# EAGLE library part PIC18F97J90 (library 000001)
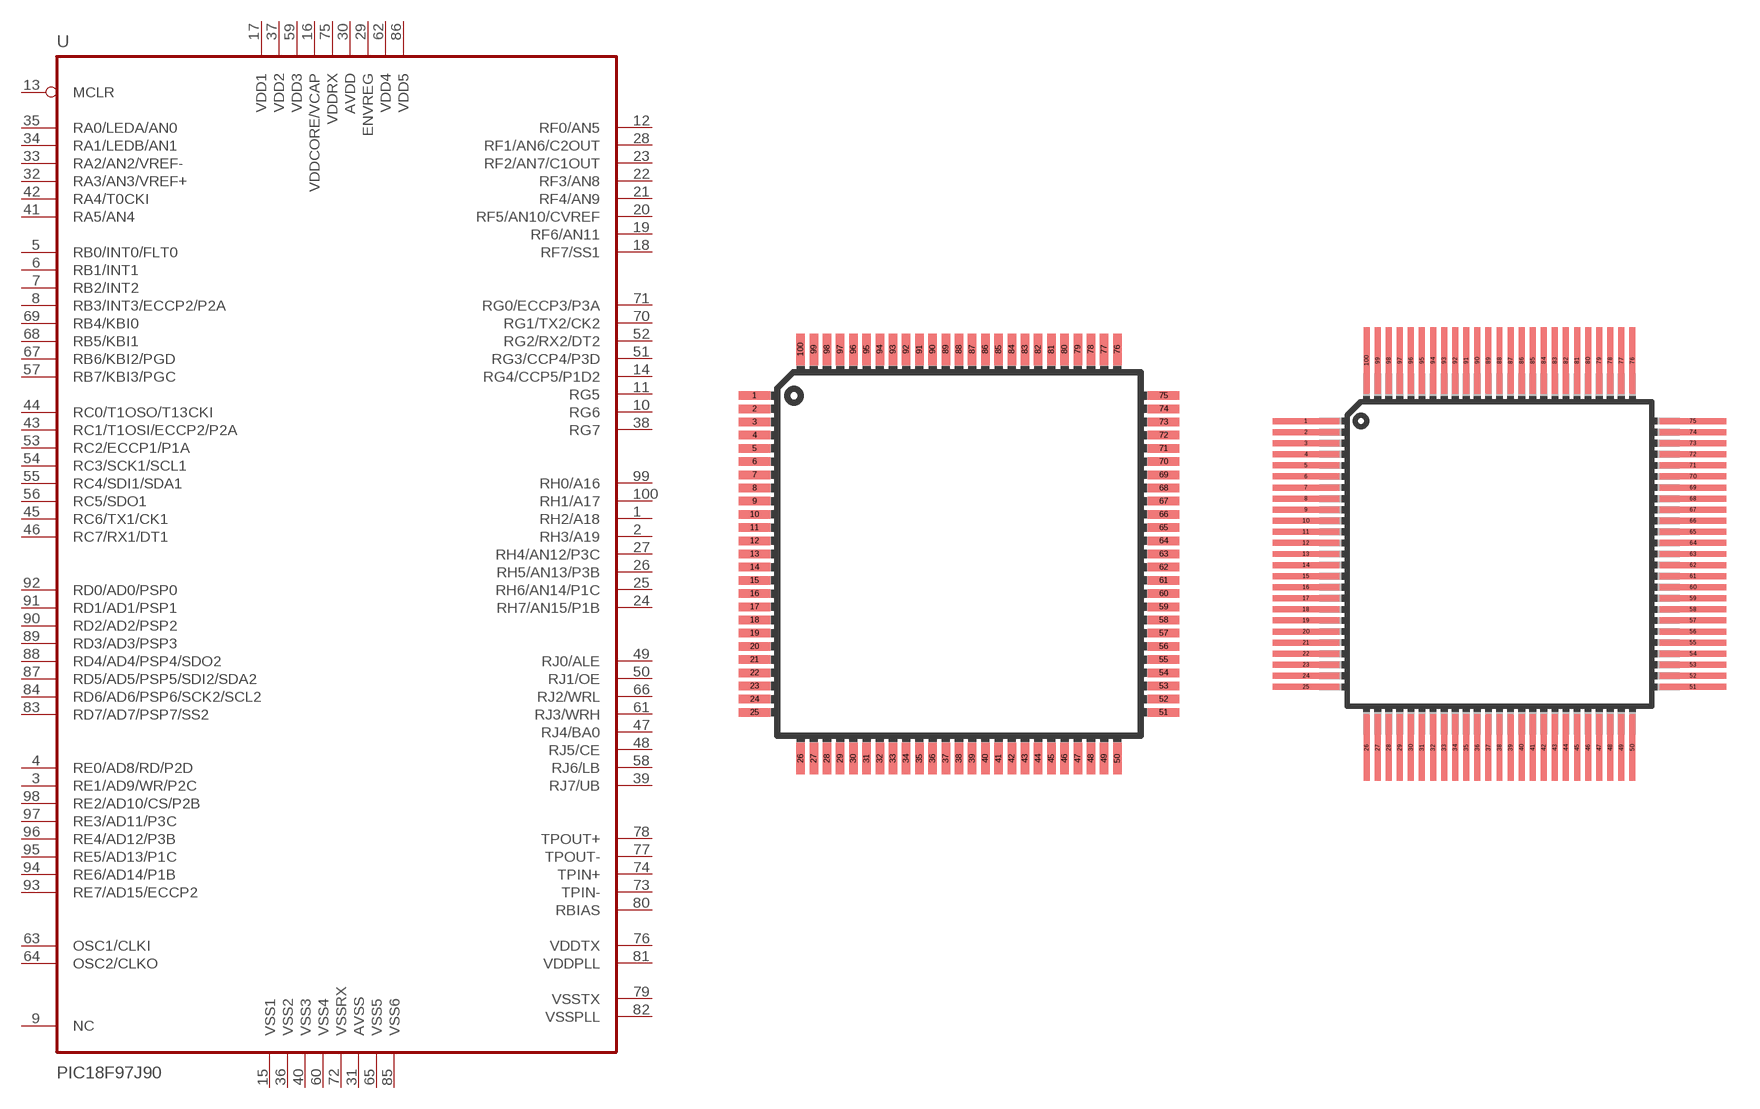
[diagram p50: symbol with the pads of TQFP100; footprints TQFP100, TQFP100_MIO]

Designator prefix -

## PIC18F97J90  [TQFP100]
1  RH2/A18
2  RH3/A19
3  RE1/AD9/WR/P2C
4  RE0/AD8/RD/P2D
5  RB0/INT0/FLT0
6  RB1/INT1
7  RB2/INT2
8  RB3/INT3/ECCP2/P2A
9  NC
10  RG6
11  RG5
12  RF0/AN5
13  MCLR
14  RG4/CCP5/P1D2
15  VSS1
16  VDDCORE/VCAP
17  VDD1
18  RF7/SS1
19  RF6/AN11
20  RF5/AN10/CVREF
21  RF4/AN9
22  RF3/AN8
23  RF2/AN7/C1OUT
24  RH7/AN15/P1B
25  RH6/AN14/P1C
26  RH5/AN13/P3B
27  RH4/AN12/P3C
28  RF1/AN6/C2OUT
29  ENVREG
30  AVDD
31  AVSS
32  RA3/AN3/VREF+
33  RA2/AN2/VREF-
34  RA1/LEDB/AN1
35  RA0/LEDA/AN0
36  VSS2
37  VDD2
38  RG7
39  RJ7/UB
40  VSS3
41  RA5/AN4
42  RA4/T0CKI
43  RC1/T1OSI/ECCP2/P2A
44  RC0/T1OSO/T13CKI
45  RC6/TX1/CK1
46  RC7/RX1/DT1
47  RJ4/BA0
48  RJ5/CE
49  RJ0/ALE
50  RJ1/OE
51  RG3/CCP4/P3D
52  RG2/RX2/DT2
53  RC2/ECCP1/P1A
54  RC3/SCK1/SCL1
55  RC4/SDI1/SDA1
56  RC5/SDO1
57  RB7/KBI3/PGC
58  RJ6/LB
59  VDD3
60  VSS4
61  RJ3/WRH
62  VDD4
63  OSC1/CLKI
64  OSC2/CLKO
65  VSS5
66  RJ2/WRL
67  RB6/KBI2/PGD
68  RB5/KBI1
69  RB4/KBI0
70  RG1/TX2/CK2
71  RG0/ECCP3/P3A
72  VSSRX
73  TPIN-
74  TPIN+
75  VDDRX
76  VDDTX
77  TPOUT-
78  TPOUT+
79  VSSTX
80  RBIAS
81  VDDPLL
82  VSSPLL
83  RD7/AD7/PSP7/SS2
84  RD6/AD6/PSP6/SCK2/SCL2
85  VSS6
86  VDD5
87  RD5/AD5/PSP5/SDI2/SDA2
88  RD4/AD4/PSP4/SDO2
89  RD3/AD3/PSP3
90  RD2/AD2/PSP2
91  RD1/AD1/PSP1
92  RD0/AD0/PSP0
93  RE7/AD15/ECCP2
94  RE6/AD14/P1B
95  RE5/AD13/P1C
96  RE4/AD12/P3B
97  RE3/AD11/P3C
98  RE2/AD10/CS/P2B
99  RH0/A16
100  RH1/A17

## PIC18F97J90PF  [TQFP100_MIO]
Pads as for TQFP100

## PIC18F97J90A  [TQFP100_ADA]
NC1  NC
P$1  RH2/A18
P$2  RH3/A19
P$3  RE1/AD9/WR/P2C
P$4  RE0/AD8/RD/P2D
P$5  RB0/INT0/FLT0
P$6  RB1/INT1
P$7  RB2/INT2
P$8  RB3/INT3/ECCP2/P2A
P$10  RG6
P$11  RG5
P$12  RF0/AN5
P$13  MCLR
P$14  RG4/CCP5/P1D2
P$15  VSS1
P$16  VDDCORE/VCAP
P$17  VDD1
P$18  RF7/SS1
P$19  RF6/AN11
P$20  RF5/AN10/CVREF
P$21  RF4/AN9
P$22  RF3/AN8
P$23  RF2/AN7/C1OUT
P$24  RH7/AN15/P1B
P$25  RH6/AN14/P1C
P$26  RH5/AN13/P3B
P$27  RH4/AN12/P3C
P$28  RF1/AN6/C2OUT
P$29  ENVREG
P$30  AVDD
P$31  AVSS
P$32  RA3/AN3/VREF+
P$33  RA2/AN2/VREF-
P$34  RA1/LEDB/AN1
P$35  RA0/LEDA/AN0
P$36  VSS2
P$37  VDD2
P$38  RG7
P$39  RJ7/UB
P$40  VSS3
P$41  RA5/AN4
P$42  RA4/T0CKI
P$43  RC1/T1OSI/ECCP2/P2A
P$44  RC0/T1OSO/T13CKI
P$45  RC6/TX1/CK1
P$46  RC7/RX1/DT1
P$47  RJ4/BA0
P$48  RJ5/CE
P$49  RJ0/ALE
P$50  RJ1/OE
P$51  RG3/CCP4/P3D
P$52  RG2/RX2/DT2
P$53  RC2/ECCP1/P1A
P$54  RC3/SCK1/SCL1
P$55  RC4/SDI1/SDA1
P$56  RC5/SDO1
P$57  RB7/KBI3/PGC
P$58  RJ6/LB
P$59  VDD3
P$60  VSS4
P$61  RJ3/WRH
P$62  VDD4
P$63  OSC1/CLKI
P$64  OSC2/CLKO
P$65  VSS5
P$66  RJ2/WRL
P$67  RB6/KBI2/PGD
P$68  RB5/KBI1
P$69  RB4/KBI0
P$70  RG1/TX2/CK2
P$71  RG0/ECCP3/P3A
P$72  VSSRX
P$73  TPIN-
P$74  TPIN+
P$75  VDDRX
P$76  VDDTX
P$77  TPOUT-
P$78  TPOUT+
P$79  VSSTX
P$80  RBIAS
P$81  VDDPLL
P$82  VSSPLL
P$83  RD7/AD7/PSP7/SS2
P$84  RD6/AD6/PSP6/SCK2/SCL2
P$85  VSS6
P$86  VDD5
P$87  RD5/AD5/PSP5/SDI2/SDA2
P$88  RD4/AD4/PSP4/SDO2
P$89  RD3/AD3/PSP3
P$90  RD2/AD2/PSP2
P$91  RD1/AD1/PSP1
P$92  RD0/AD0/PSP0
P$93  RE7/AD15/ECCP2
P$94  RE6/AD14/P1B
P$95  RE5/AD13/P1C
P$96  RE4/AD12/P3B
P$97  RE3/AD11/P3C
P$98  RE2/AD10/CS/P2B
P$99  RH0/A16
P$100  RH1/A17

## Footprint TQFP100 (pad centres in mm)
smd 1.2 x 0.32: 1 -7.75,6; 2 -7.75,5.5; 3 -7.75,5; 4 -7.75,4.5; 5 -7.75,4; 6 -7.75,3.5; 7 -7.75,3; 8 -7.75,2.5; 9 -7.75,2; 10 -7.75,1.5; 11 -7.75,1; 12 -7.75,0.5; 13 -7.75,0; 14 -7.75,-0.5; 15 -7.75,-1; 16 -7.75,-1.5; 17 -7.75,-2; 18 -7.75,-2.5; 19 -7.75,-3; 20 -7.75,-3.5; 21 -7.75,-4; 22 -7.75,-4.5; 23 -7.75,-5; 24 -7.75,-5.5; 25 -7.75,-6; 51 7.75,-6; 52 7.75,-5.5; 53 7.75,-5; 54 7.75,-4.5; 55 7.75,-4; 56 7.75,-3.5; 57 7.75,-3; 58 7.75,-2.5; 59 7.75,-2; 60 7.75,-1.5; 61 7.75,-1; 62 7.75,-0.5; 63 7.75,0; 64 7.75,0.5; 65 7.75,1; 66 7.75,1.5; 67 7.75,2; 68 7.75,2.5; 69 7.75,3; 70 7.75,3.5; 71 7.75,4; 72 7.75,4.5; 73 7.75,5; 74 7.75,5.5; 75 7.75,6
smd 0.32 x 1.2: 26 -6,-7.75; 27 -5.5,-7.75; 28 -5,-7.75; 29 -4.5,-7.75; 30 -4,-7.75; 31 -3.5,-7.75; 32 -3,-7.75; 33 -2.5,-7.75; 34 -2,-7.75; 35 -1.5,-7.75; 36 -1,-7.75; 37 -0.5,-7.75; 38 0,-7.75; 39 0.5,-7.75; 40 1,-7.75; 41 1.5,-7.75; 42 2,-7.75; 43 2.5,-7.75; 44 3,-7.75; 45 3.5,-7.75; 46 4,-7.75; 47 4.5,-7.75; 48 5,-7.75; 49 5.5,-7.75; 50 6,-7.75; 76 6,7.75; 77 5.5,7.75; 78 5,7.75; 79 4.5,7.75; 80 4,7.75; 81 3.5,7.75; 82 3,7.75; 83 2.5,7.75; 84 2,7.75; 85 1.5,7.75; 86 1,7.75; 87 0.5,7.75; 88 0,7.75; 89 -0.5,7.75; 90 -1,7.75; 91 -1.5,7.75; 92 -2,7.75; 93 -2.5,7.75; 94 -3,7.75; 95 -3.5,7.75; 96 -4,7.75; 97 -4.5,7.75; 98 -5,7.75; 99 -5.5,7.75; 100 -6,7.75

## Footprint TQFP100_MIO (pad centres in mm)
smd 3 x 0.27: 1 -8.738,6; 2 -8.738,5.5; 3 -8.738,5; 4 -8.738,4.5; 5 -8.738,4; 6 -8.738,3.5; 7 -8.738,3; 8 -8.738,2.5; 9 -8.738,2; 10 -8.738,1.5; 11 -8.738,1; 12 -8.738,0.5; 13 -8.738,0; 14 -8.738,-0.5; 15 -8.738,-1; 16 -8.738,-1.5; 17 -8.738,-2; 18 -8.738,-2.5; 19 -8.738,-3; 20 -8.738,-3.5; 21 -8.738,-4; 22 -8.738,-4.5; 23 -8.738,-5; 24 -8.738,-5.5; 25 -8.738,-6; 51 8.738,-6; 52 8.738,-5.5; 53 8.738,-5; 54 8.738,-4.5; 55 8.738,-4; 56 8.738,-3.5; 57 8.738,-3; 58 8.738,-2.5; 59 8.738,-2; 60 8.738,-1.5; 61 8.738,-1; 62 8.738,-0.5; 63 8.738,0; 64 8.738,0.5; 65 8.738,1; 66 8.738,1.5; 67 8.738,2; 68 8.738,2.5; 69 8.738,3; 70 8.738,3.5; 71 8.738,4; 72 8.738,4.5; 73 8.738,5; 74 8.738,5.5; 75 8.738,6
smd 0.27 x 3: 26 -6,-8.738; 27 -5.5,-8.738; 28 -5,-8.738; 29 -4.5,-8.738; 30 -4,-8.738; 31 -3.5,-8.738; 32 -3,-8.738; 33 -2.5,-8.738; 34 -2,-8.738; 35 -1.5,-8.738; 36 -1,-8.738; 37 -0.5,-8.738; 38 0,-8.738; 39 0.5,-8.738; 40 1,-8.738; 41 1.5,-8.738; 42 2,-8.738; 43 2.5,-8.738; 44 3,-8.738; 45 3.5,-8.738; 46 4,-8.738; 47 4.5,-8.738; 48 5,-8.738; 49 5.5,-8.738; 50 6,-8.738; 76 6,8.738; 77 5.5,8.738; 78 5,8.738; 79 4.5,8.738; 80 4,8.738; 81 3.5,8.738; 82 3,8.738; 83 2.5,8.738; 84 2,8.738; 85 1.5,8.738; 86 1,8.738; 87 0.5,8.738; 88 0,8.738; 89 -0.5,8.738; 90 -1,8.738; 91 -1.5,8.738; 92 -2,8.738; 93 -2.5,8.738; 94 -3,8.738; 95 -3.5,8.738; 96 -4,8.738; 97 -4.5,8.738; 98 -5,8.738; 99 -5.5,8.738; 100 -6,8.738

## Footprint TQFP100_ADA (pad centres in mm)
drill 0.8 pad 1.676 round: NC1 -22.86,-16.51; NC2 16.51,-19.05; NC3 21.59,13.97; NC4 -13.97,16.51; P$2 -22.86,13.97; P$3 -25.4,11.43; P$4 -22.86,11.43; P$5 -25.4,8.89; P$6 -22.86,8.89; P$7 -25.4,6.35; P$8 -22.86,6.35; P$9 -25.4,3.81; P$10 -22.86,3.81; P$11 -25.4,1.27; P$12 -22.86,1.27; P$13 -25.4,-1.27; P$14 -22.86,-1.27; P$15 -25.4,-3.81; P$16 -22.86,-3.81; P$17 -25.4,-6.35; P$18 -22.86,-6.35; P$19 -25.4,-8.89; P$20 -22.86,-8.89; P$21 -25.4,-11.43; P$22 -22.86,-11.43; P$23 -25.4,-13.97; P$24 -22.86,-13.97; P$25 -25.4,-16.51; P$26 -13.97,-21.59; P$27 -13.97,-19.05; P$28 -11.43,-21.59; P$29 -11.43,-19.05; P$30 -8.89,-21.59; P$31 -8.89,-19.05; P$32 -6.35,-21.59; P$33 -6.35,-19.05; P$34 -3.81,-21.59; P$35 -3.81,-19.05; P$36 -1.27,-21.59; P$37 -1.27,-19.05; P$38 1.27,-21.59; P$39 1.27,-19.05; P$40 3.81,-21.59; P$41 3.81,-19.05; P$42 6.35,-21.59; P$43 6.35,-19.05; P$44 8.89,-21.59; P$45 8.89,-19.05; P$46 11.43,-21.59; P$47 11.43,-19.05; P$48 13.97,-21.59; P$49 13.97,-19.05; P$50 16.51,-21.59; P$51 24.13,-16.51; P$52 21.59,-16.51; P$53 24.13,-13.97; P$54 21.59,-13.97; P$55 24.13,-11.43; P$56 21.59,-11.43; P$57 24.13,-8.89; P$58 21.59,-8.89; P$59 24.13,-6.35; P$60 21.59,-6.35; P$61 24.13,-3.81; P$62 21.59,-3.81; P$63 24.13,-1.27; P$64 21.59,-1.27; P$65 24.13,1.27; P$66 21.59,1.27; P$67 24.13,3.81; P$68 21.59,3.81; P$69 24.13,6.35; P$70 21.59,6.35; P$71 24.13,8.89; P$72 21.59,8.89; P$73 24.13,11.43; P$74 21.59,11.43; P$75 24.13,13.97; P$76 16.51,19.05; P$77 16.51,16.51; P$78 13.97,19.05; P$79 13.97,16.51; P$80 11.43,19.05; P$81 11.43,16.51; P$82 8.89,19.05; P$83 8.89,16.51; P$84 6.35,19.05; P$85 6.35,16.51; P$86 3.81,19.05; P$87 3.81,16.51; P$88 1.27,19.05; P$89 1.27,16.51; P$90 -1.27,19.05; P$91 -1.27,16.51; P$92 -3.81,19.05; P$93 -3.81,16.51; P$94 -6.35,19.05; P$95 -6.35,16.51; P$96 -8.89,19.05; P$97 -8.89,16.51; P$98 -11.43,19.05; P$99 -11.43,16.51; P$100 -13.97,19.05
drill 0.8 pad 1.676 octagon: P$1 -25.4,13.97